# Altium footprint library TypeC.PcbLib: 1 footprints
Each footprint in its own frame and in the unit in brackets; x right, y up, seen from the top. Pads: shape width x height; smd on the part's side, far side on the other; paste and mask are expansions set on the pad; w line width, h text height; cw(c..) or ccw(c..) is an arc to the next point about the centre after c.
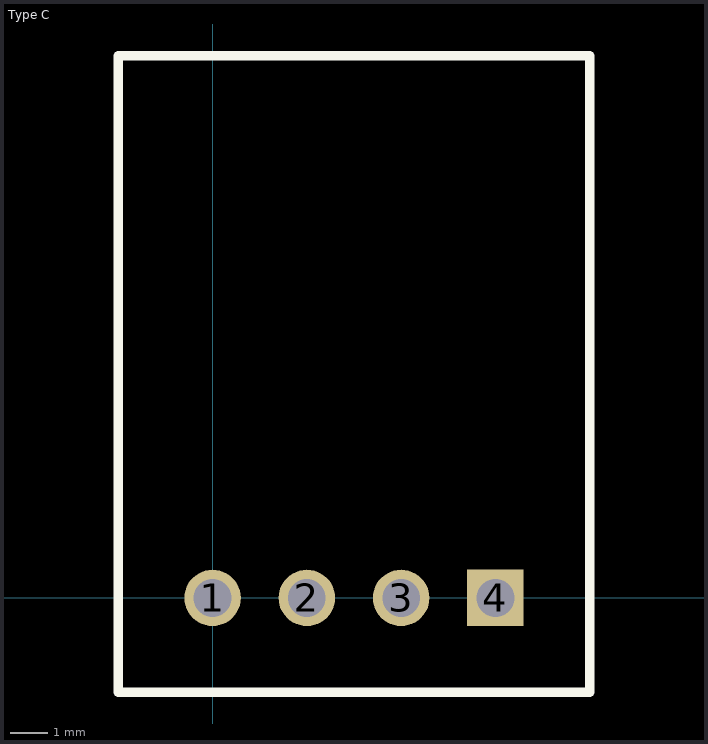
[diagram p0: the footprint, top view; thin cyan lines are the x and y axes]

## Type C [mil]
pads (4):
  round 60 hole 40: 1(0,0) 2(100,0) 3(200,0)
  rect 60x60 hole 40: 4(300,0)
Top Overlay:
  lines w10: -100,-100 400,-100 400,575 -100,575 -100,-100
3D body "USB-C board JRC-B023.step": height 62.2, standoff -62.2, extent -31.1,-50 331.1,525.2